# Altium schematic symbol library UUX1E221MNL1GS.SchLib: 1 symbol
Pins are listed as number, name and electrical type; pins without a type are passive.

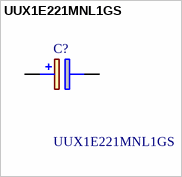
[diagram p0: symbol UUX1E221MNL1GS]

## UUX1E221MNL1GS
designator C?
Nichicon 220uF Electrolytic Capacitor 25V dc, Surface Mount - UUX1E221MNL1GS; Geometry.Height: 10.8mm; Mouser Part Number: 647-UUX1E221MNL1GS; Mouser Price/Stock: https://www.mouser.co.uk/ProductDetail/Nichicon/UUX1E221MNL1GS?qs=%252BzEQ4sV6YNl6PYAEsoiWCQ%3D%3D; Manufacturer_Name: Nichicon; Manufacturer_Part_Number: UUX1E221MNL1GS; Datasheet Link: https://datasheet.datasheetarchive.com/originals/dk/DKDS-9/176761.pdf
footprint CAPAE1030X1080N
pins: 1 +, 2 -